# Altium footprint library current sensor.PcbLib: 1 footprints
Each footprint in its own frame and in the unit in brackets; x right, y up, seen from the top. Pads: shape width x height; smd on the part's side, far side on the other; paste and mask are expansions set on the pad; w line width, h text height; cw(c..) or ccw(c..) is an arc to the next point about the centre after c.
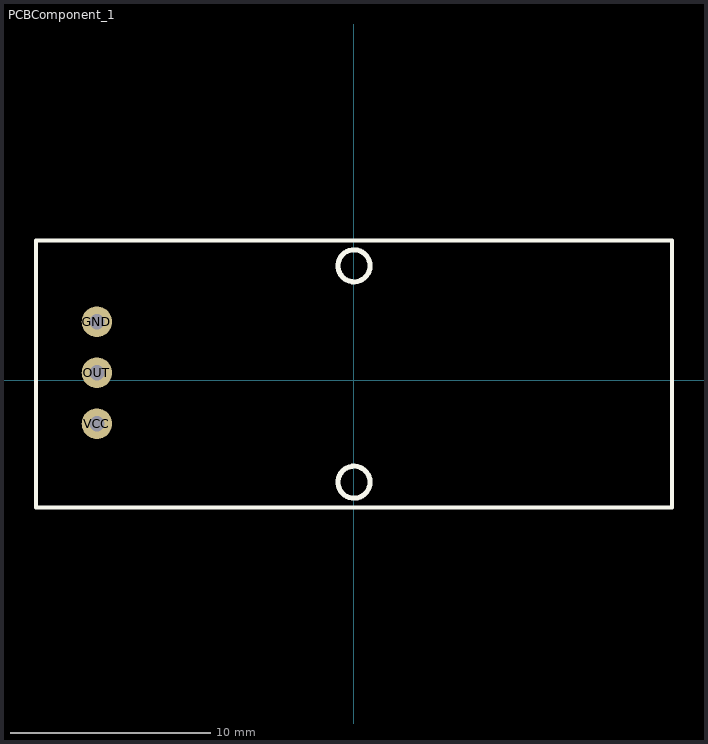
[diagram p0: the footprint, top view; thin cyan lines are the x and y axes]

## PCBComponent_1 [mil]
pads (3):
  round 60 hole 30: GND(-505,115) OUT(-505,15) VCC(-505,-85)
Top Overlay:
  circle w10: c0,-200 r31.5
  circle w10: c0,225 r31.5
  lines w7.87: -625,-250 -625,275 625,275 625,-250 -625,-250